# Altium integrated library Motorola PLD Programmable Array Data.IntLib: 10 symbols
Pins are listed as number, name and electrical type; pins without a type are passive.

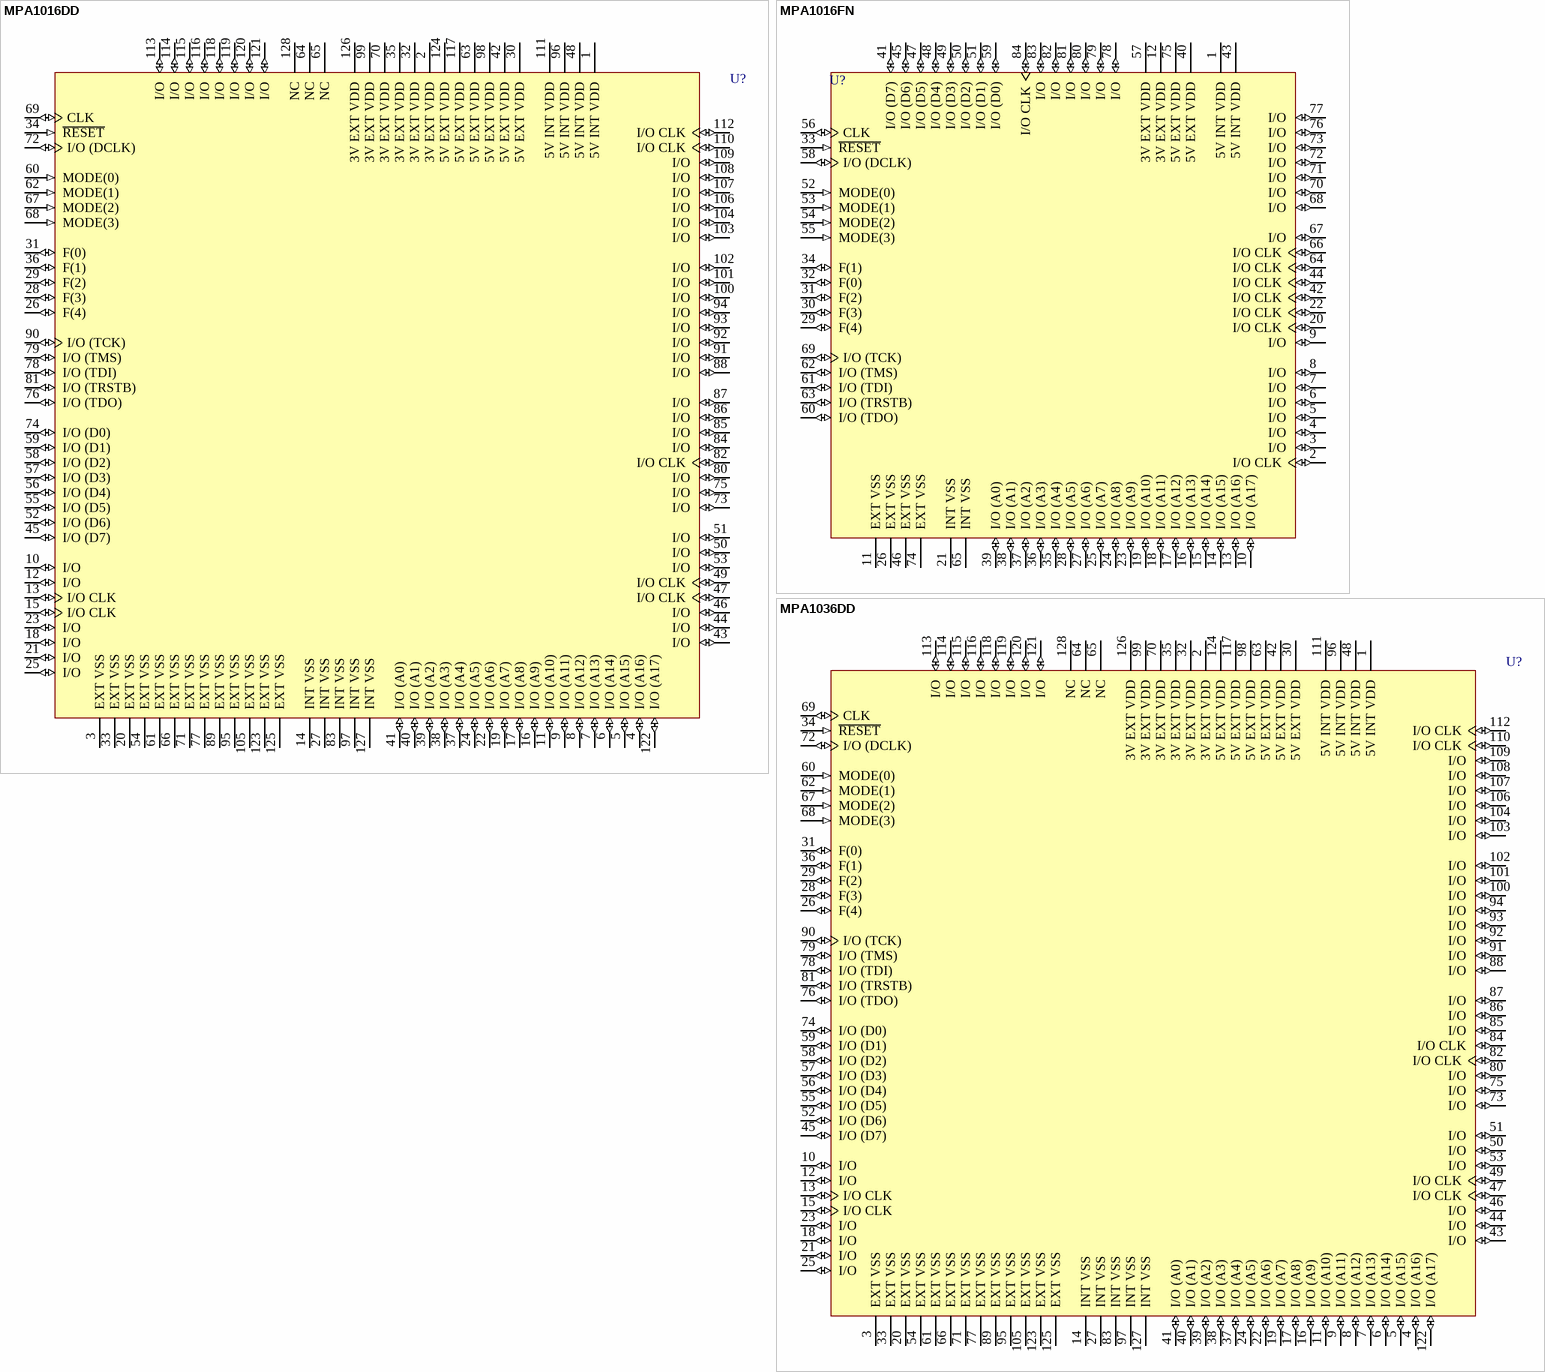
[diagram p0: symbols MPA1016DD to MPA1036DD]

## MPA1016DD
designator U?
High Density Programmable Array (MPA); Published: 28-Feb-2003; LatestRevisionDate: 13-Apr-2006; LatestRevisionNote: IPC-7351 Footprint Added.; DatasheetVersion: DL201/D Rev. 1; PackageReference: 862A-02; Publisher: Altium Limited; PackageDescription: 128-Pin Quad Flat Pack 0.8 mm Pitch; Code_IPC: QFP80P3120X3120-128; ComponentLink1Description: Manufacturer Link; ComponentLink1URL: http://www.motorola.com/
footprint 862A-02_N (QFP, 128-Leads, Body 28x28mm, Pitch 0.8mm, IPC Medium Density)
footprint 862A-02_L (QFP, 128-Leads, Body 28x28mm, Pitch 0.8mm, IPC High Density)
footprint 862A-02_M (QFP, 128-Leads, Body 28x28mm, Pitch 0.8mm, IPC Low Density)
3D model MPA1016DD-862A-02 (128-Pin Quad Flat Pack 0.8 mm Pitch)
pins: 1 5V INT VDD (power), 2 3V EXT VDD (power), 3 EXT VSS (power), 4 I/O (A16) (io), 5 I/O (A15) (io), 6 I/O (A14) (io), 7 I/O (A13) (io), 8 I/O (A12) (io), 9 I/O (A11) (io), 10 I/O (io), 11 I/O (A10) (io), 12 I/O (io), 13 I/O CLK (io), 14 INT VSS (power), 15 I/O CLK (io), 16 I/O (A9) (io), 17 I/O (A8) (io), 18 I/O (io), 19 I/O (A7) (io), 20 EXT VSS (power), 21 I/O (io), 22 I/O (A6) (io), 23 I/O (io), 24 I/O (A5) (io), 25 I/O (io), 26 F(4) (io), 27 INT VSS (power), 28 F(3) (io), 29 F(2) (io), 30 5V EXT VDD (power), 31 F(0) (io), 32 3V EXT VDD (power), 33 EXT VSS (power), 34 ~{RESET} (in), 35 3V EXT VDD (power), 36 F(1) (io), 37 I/O (A4) (io), 38 I/O (A3) (io), 39 I/O (A2) (io), 40 I/O (A1) (io), 41 I/O (A0) (io), 42 5V EXT VDD (power), 43 I/O (io), 44 I/O (io), 45 I/O (D7) (io), 46 I/O (io), 47 I/O CLK (io), 48 5V INT VDD (power), 49 I/O CLK (io), 50 I/O (io), 51 I/O (io), 52 I/O (D6) (io), 53 I/O (io), 54 EXT VSS (power), 55 I/O (D5) (io), 56 I/O (D4) (io), 57 I/O (D3) (io), 58 I/O (D2) (io), 59 I/O (D1) (io), 60 MODE(0) (in), 61 EXT VSS (power), 62 MODE(1) (in), 63 5V EXT VDD (power), 64 NC, 65 NC, 66 EXT VSS (power), 67 MODE(2) (in), 68 MODE(3) (in), 69 CLK (io), 70 3V EXT VDD (power), 71 EXT VSS (power), 72 I/O (DCLK) (io), 73 I/O (io), 74 I/O (D0) (io), 75 I/O (io), 76 I/O (TDO) (io), 77 EXT VSS (power), 78 I/O (TDI) (io), 79 I/O (TMS) (io), 80 I/O (io), 81 I/O (TRSTB) (io), 82 I/O CLK (io), 83 INT VSS (power), 84 I/O (io), 85 I/O (io), 86 I/O (io), 87 I/O (io), 88 I/O (io), 89 EXT VSS (power), 90 I/O (TCK) (io), 91 I/O (io), 92 I/O (io), 93 I/O (io), 94 I/O (io), 95 EXT VSS (power), 96 5V INT VDD (power), 97 INT VSS (power), 98 5V EXT VDD (power), 99 3V EXT VDD (power), 100 I/O (io), 101 I/O (io), 102 I/O (io), 103 I/O (io), 104 I/O (io), 105 EXT VSS (power), 106 I/O (io), 107 I/O (io), 108 I/O (io), 109 I/O (io), 110 I/O CLK (io), 111 5V INT VDD (power), 112 I/O CLK (io), 113 I/O (io), 114 I/O (io), 115 I/O (io), 116 I/O (io), 117 5V EXT VDD (power), 118 I/O (io), 119 I/O (io), 120 I/O (io), 121 I/O (io), 122 I/O (A17) (io), 123 EXT VSS (power), 124 5V EXT VDD (power), 125 EXT VSS (power), 126 3V EXT VDD (power), 127 INT VSS (power), 128 NC

## MPA1016FN
designator U?
High Density Programmable Array (MPA); Published: 28-Feb-2003; LatestRevisionDate: 13-Apr-2006; LatestRevisionNote: IPC-7351 Footprint Added.; DatasheetVersion: DL201/D Rev. 1; PackageVersion: 1996; PackageReference: 780-01; Publisher: Altium Limited; PackageDescription: 84-Pin Leaded Chip Carrier 1.27 mm Pitch; Code_IPC: PLCC-84; ComponentLink1Description: Manufacturer Link; ComponentLink1URL: http://www.motorola.com/
footprint 780-01_N (Leaded Chip Carrier, 84-Leads, Body 29.3x29.3mm, Pitch 1.27mm, IPC Medium Density)
footprint 780-01_L (Leaded Chip Carrier, 84-Leads, Body 29.3x29.3mm, Pitch 1.27mm, IPC High Density)
footprint 780-01_M (Leaded Chip Carrier, 84-Leads, Body 29.3x29.3mm, Pitch 1.27mm, IPC Low Density)
3D model MPA1016FN-780-01 (84-Pin Leaded Chip Carrier 1.27 mm Pitch)
pins: 1 5V INT VDD (power), 2 I/O CLK (io), 3 I/O (io), 4 I/O (io), 5 I/O (io), 6 I/O (io), 7 I/O (io), 8 I/O (io), 9 I/O (io), 10 I/O (A17) (io), 11 EXT VSS (power), 12 3V EXT VDD (power), 13 I/O (A16) (io), 14 I/O (A15) (io), 15 I/O (A14) (io), 16 I/O (A13) (io), 17 I/O (A12) (io), 18 I/O (A11) (io), 19 I/O (A10) (io), 20 I/O CLK (io), 21 INT VSS (power), 22 I/O CLK (io), 23 I/O (A9) (io), 24 I/O (A8) (io), 25 I/O (A7) (io), 26 EXT VSS (power), 27 I/O (A6) (io), 28 I/O (A5) (io), 29 F(4) (io), 30 F(3) (io), 31 F(2) (io), 32 F(0) (io), 33 ~{RESET} (in), 34 F(1) (io), 35 I/O (A4) (io), 36 I/O (A3) (io), 37 I/O (A2) (io), 38 I/O (A1) (io), 39 I/O (A0) (io), 40 5V EXT VDD (power), 41 I/O (D7) (io), 42 I/O CLK (io), 43 5V INT VDD (power), 44 I/O CLK (io), 45 I/O (D6) (io), 46 EXT VSS (power), 47 I/O (D5) (io), 48 I/O (D4) (io), 49 I/O (D3) (io), 50 I/O (D2) (io), 51 I/O (D1) (io), 52 MODE(0) (in), 53 MODE(1) (in), 54 MODE(2) (in), 55 MODE(3) (in), 56 CLK (io), 57 3V EXT VDD (power), 58 I/O (DCLK) (io), 59 I/O (D0) (io), 60 I/O (TDO) (io), 61 I/O (TDI) (io), 62 I/O (TMS) (io), 63 I/O (TRSTB) (io), 64 I/O CLK (io), 65 INT VSS (power), 66 I/O CLK (io), 67 I/O (io), 68 I/O (io), 69 I/O (TCK) (io), 70 I/O (io), 71 I/O (io), 72 I/O (io), 73 I/O (io), 74 EXT VSS (power), 75 5V EXT VDD (power), 76 I/O (io), 77 I/O (io), 78 I/O (io), 79 I/O (io), 80 I/O (io), 81 I/O (io), 82 I/O (io), 83 I/O (io), 84 I/O CLK (io)

## MPA1036DD
designator U?
High Density Programmable Array (MPA); Published: 28-Feb-2003; LatestRevisionDate: 13-Apr-2006; LatestRevisionNote: IPC-7351 Footprint Added.; DatasheetVersion: DL201/D Rev. 1; PackageReference: 862A-02; Publisher: Altium Limited; PackageDescription: 128-Pin Quad Flat Pack 0.8 mm Pitch; Code_IPC: QFP80P3120X3120-128; ComponentLink1Description: Manufacturer Link; ComponentLink1URL: http://www.motorola.com/
footprint 862A-02_N (QFP, 128-Leads, Body 28x28mm, Pitch 0.8mm, IPC Medium Density)
footprint 862A-02_L (QFP, 128-Leads, Body 28x28mm, Pitch 0.8mm, IPC High Density)
footprint 862A-02_M (QFP, 128-Leads, Body 28x28mm, Pitch 0.8mm, IPC Low Density)
3D model MPA1036DD-862A-02 (128-Pin Quad Flat Pack 0.8 mm Pitch)
pins: 1 5V INT VDD (power), 2 3V EXT VDD (power), 3 EXT VSS (power), 4 I/O (A16) (io), 5 I/O (A15) (io), 6 I/O (A14) (io), 7 I/O (A13) (io), 8 I/O (A12) (io), 9 I/O (A11) (io), 10 I/O (io), 11 I/O (A10) (io), 12 I/O (io), 13 I/O CLK (io), 14 INT VSS (power), 15 I/O CLK (io), 16 I/O (A9) (io), 17 I/O (A8) (io), 18 I/O (io), 19 I/O (A7) (io), 20 EXT VSS (power), 21 I/O (io), 22 I/O (A6) (io), 23 I/O (io), 24 I/O (A5) (io), 25 I/O (io), 26 F(4) (io), 27 INT VSS (power), 28 F(3) (io), 29 F(2) (io), 30 5V EXT VDD (power), 31 F(0) (io), 32 3V EXT VDD (power), 33 EXT VSS (power), 34 ~{RESET} (in), 35 3V EXT VDD (power), 36 F(1) (io), 37 I/O (A4) (io), 38 I/O (A3) (io), 39 I/O (A2) (io), 40 I/O (A1) (io), 41 I/O (A0) (io), 42 5V EXT VDD (power), 43 I/O (io), 44 I/O (io), 45 I/O (D7) (io), 46 I/O (io), 47 I/O CLK (io), 48 5V INT VDD (power), 49 I/O CLK (io), 50 I/O (io), 51 I/O (io), 52 I/O (D6) (io), 53 I/O (io), 54 EXT VSS (power), 55 I/O (D5) (io), 56 I/O (D4) (io), 57 I/O (D3) (io), 58 I/O (D2) (io), 59 I/O (D1) (io), 60 MODE(0) (in), 61 EXT VSS (power), 62 MODE(1) (in), 63 5V EXT VDD (power), 64 NC, 65 NC, 66 EXT VSS (power), 67 MODE(2) (in), 68 MODE(3) (in), 69 CLK (io), 70 3V EXT VDD (power), 71 EXT VSS (power), 72 I/O (DCLK) (io), 73 I/O (io), 74 I/O (D0) (io), 75 I/O (io), 76 I/O (TDO) (io), 77 EXT VSS (power), 78 I/O (TDI) (io), 79 I/O (TMS) (io), 80 I/O (io), 81 I/O (TRSTB) (io), 82 I/O CLK (io), 83 INT VSS (power), 84 I/O CLK (io), 85 I/O (io), 86 I/O (io), 87 I/O (io), 88 I/O (io), 89 EXT VSS (power), 90 I/O (TCK) (io), 91 I/O (io), 92 I/O (io), 93 I/O (io), 94 I/O (io), 95 EXT VSS (power), 96 5V INT VDD (power), 97 INT VSS (power), 98 5V EXT VDD (power), 99 3V EXT VDD (power), 100 I/O (io), 101 I/O (io), 102 I/O (io), 103 I/O (io), 104 I/O (io), 105 EXT VSS (power), 106 I/O (io), 107 I/O (io), 108 I/O (io), 109 I/O (io), 110 I/O CLK (io), 111 5V INT VDD (power), 112 I/O CLK (io), 113 I/O (io), 114 I/O (io), 115 I/O (io), 116 I/O (io), 117 5V EXT VDD (power), 118 I/O (io), 119 I/O (io), 120 I/O (io), 121 I/O (io), 122 I/O (A17) (io), 123 EXT VSS (power), 124 5V EXT VDD (power), 125 EXT VSS (power), 126 3V EXT VDD (power), 127 INT VSS (power), 128 NC

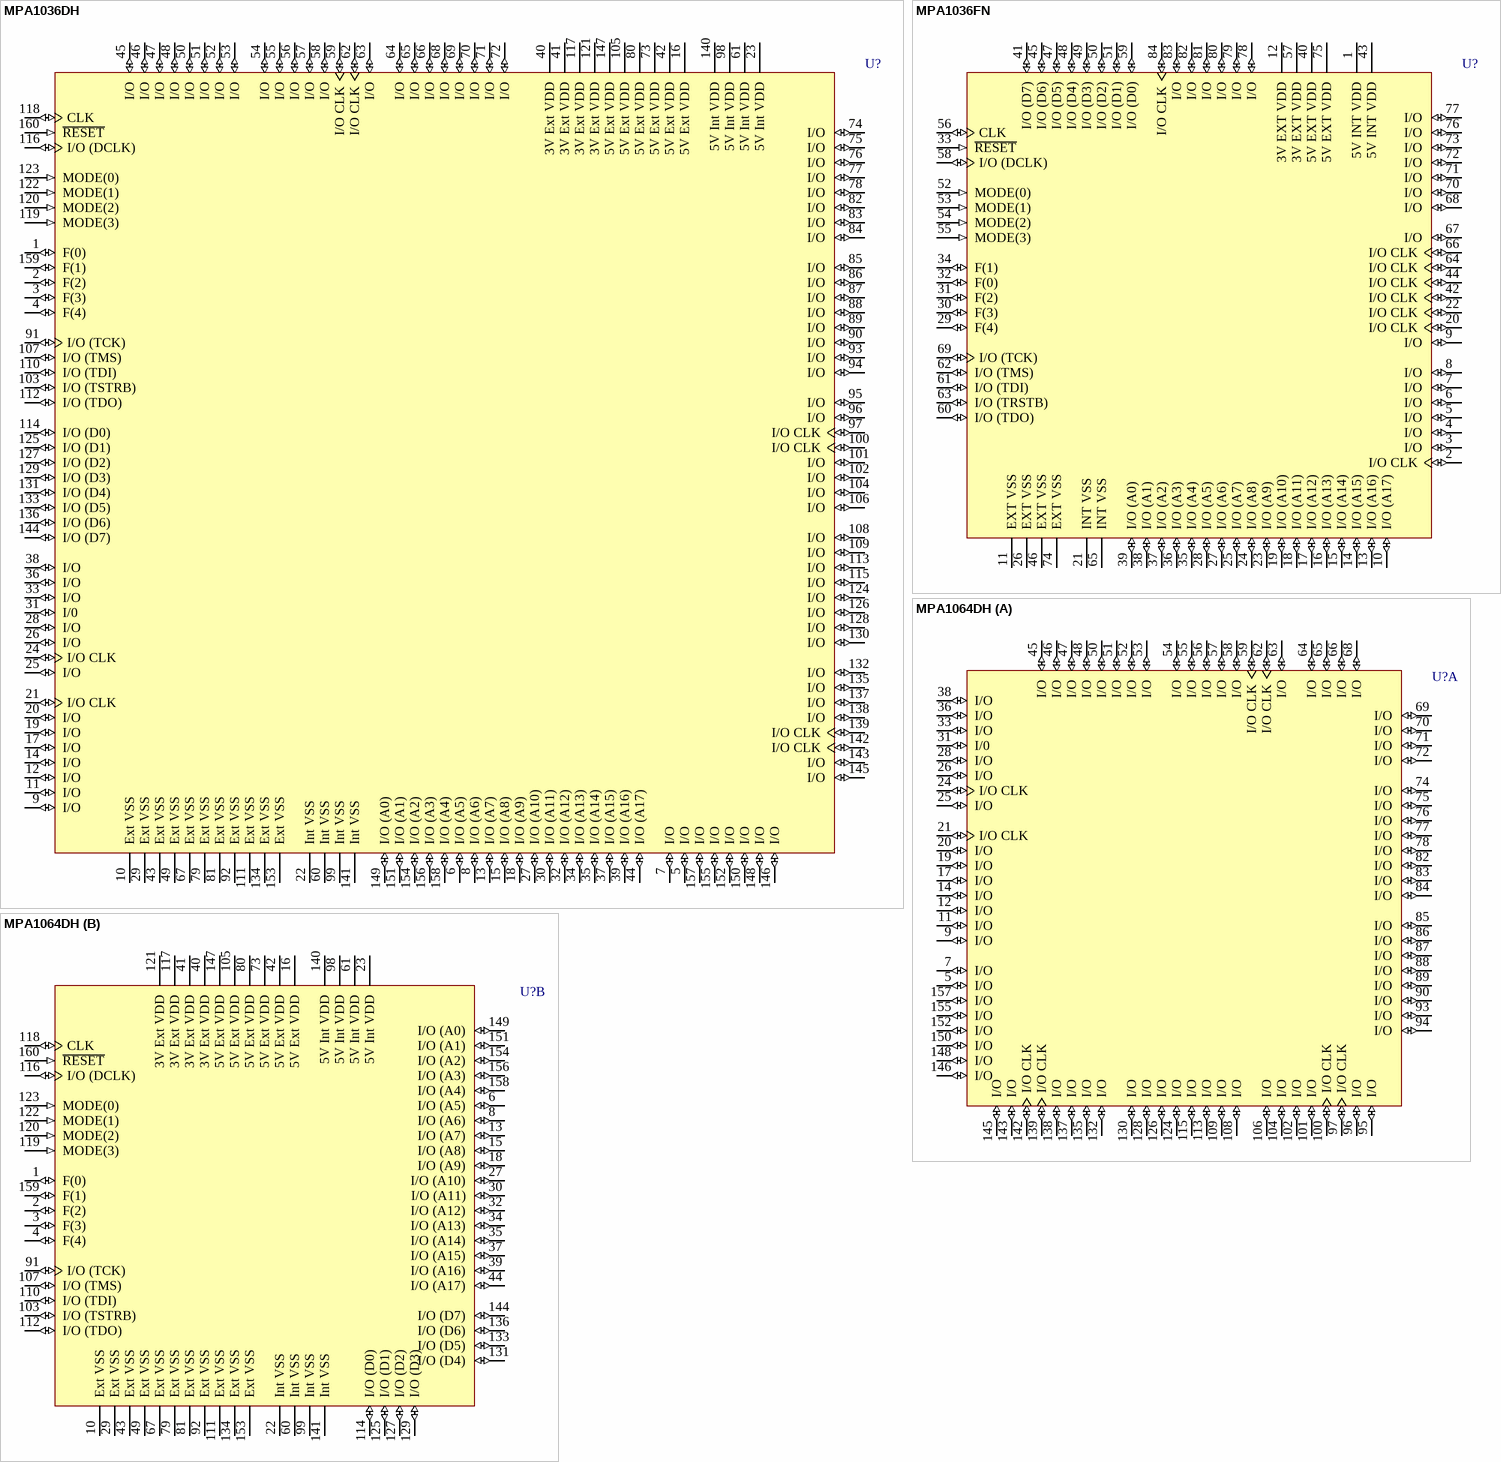
[diagram p1: symbols MPA1036DH to MPA1064DH]

## MPA1036DH
designator U?
High Density Programmable Array (MPA); Published: 28-Feb-2003; LatestRevisionDate: 13-Apr-2006; LatestRevisionNote: IPC-7351 Footprint Added.; DatasheetVersion: DL201/D Rev. 1; PackageVersion: 1996; PackageReference: 864A-03; Publisher: Altium Limited; PackageDescription: 160-Pin Plastic Quad Flat Pack 0.65 mm Pitch; Code_IPC: QFP65P3120X3120-160; ComponentLink1Description: Manufacturer Link; ComponentLink1URL: http://www.motorola.com/
footprint 864A-03_N (QFP, 160-Leads, Body 28 x 28mm, Pitch 0.65mm, IPC Medium Density)
footprint 864A-03_L (QFP, 160-Leads, Body 28 x 28mm, Pitch 0.65mm, IPC High Density)
footprint 864A-03_M (QFP, 160-Leads, Body 28 x 28mm, Pitch 0.65mm, IPC Low Density)
3D model MPA1036DH-864A-03 (160-Pin Plastic Quad Flat Pack 0.65 mm Pitch)
pins: 1 F(0) (io), 2 F(2) (io), 3 F(3) (io), 4 F(4) (io), 5 I/O (io), 6 I/O (A5) (io), 7 I/O (io), 8 I/O (A6) (io), 9 I/O (io), 10 Ext VSS (power), 11 I/O (io), 12 I/O (io), 13 I/O (A7) (io), 14 I/O (io), 15 I/O (A8) (io), 16 5V Ext VDD (power), 17 I/O (io), 18 I/O (A9) (io), 19 I/O (io), 20 I/O (io), 21 I/O CLK (io), 22 Int VSS (power), 23 5V Int VDD (power), 24 I/O CLK (io), 25 I/O (io), 26 I/O (io), 27 I/O (A10) (io), 28 I/O (io), 29 Ext VSS (power), 30 I/O (A11) (io), 31 I/0 (io), 32 I/O (A12) (io), 33 I/O (io), 34 I/O (A13) (io), 35 I/O (A14) (io), 36 I/O (io), 37 I/O (A15) (io), 38 I/O (io), 39 I/O (A16) (io), 40 3V Ext VDD (power), 41 3V Ext VDD (power), 42 5V Ext VDD (power), 43 Ext VSS (power), 44 I/O (A17) (io), 45 I/O (io), 46 I/O (io), 47 I/O (io), 48 I/O (io), 49 Ext VSS (power), 50 I/O (io), 51 I/O (io), 52 I/O (io), 53 I/O (io), 54 I/O (io), 55 I/O (io), 56 I/O (io), 57 I/O (io), 58 I/O (io), 59 I/O CLK (io), 60 Int VSS (power), 61 5V Int VDD (power), 62 I/O CLK (io), 63 I/O (io), 64 I/O (io), 65 I/O (io), 66 I/O (io), 67 Ext VSS (power), 68 I/O (io), 69 I/O (io), 70 I/O (io), 71 I/O (io), 72 I/O (io), 73 5V Ext VDD (power), 74 I/O (io), 75 I/O (io), 76 I/O (io), 77 I/O (io), 78 I/O (io), 79 Ext VSS (power), 80 5V Ext VDD (power), 81 Ext VSS (power), 82 I/O (io), 83 I/O (io), 84 I/O (io), 85 I/O (io), 86 I/O (io), 87 I/O (io), 88 I/O (io), 89 I/O (io), 90 I/O (io), 91 I/O (TCK) (io), 92 Ext VSS (power), 93 I/O (io), 94 I/O (io), 95 I/O (io), 96 I/O (io), 97 I/O CLK (io), 98 5V Int VDD (power), 99 Int VSS (power), 100 I/O CLK (io), 101 I/O (io), 102 I/O (io), 103 I/O (TSTRB) (io), 104 I/O (io), 105 5V Ext VDD (power), 106 I/O (io), 107 I/O (TMS) (io), 108 I/O (io), 109 I/O (io), 110 I/O (TDI) (io), 111 Ext VSS (power), 112 I/O (TDO) (io), 113 I/O (io), 114 I/O (D0) (io), 115 I/O (io), 116 I/O (DCLK) (io), 117 3V Ext VDD (power), 118 CLK (io), 119 MODE(3) (in), 120 MODE(2) (in), 121 3V Ext VDD (power), 122 MODE(1) (in), 123 MODE(0) (in), 124 I/O (io), 125 I/O (D1) (io), 126 I/O (io), 127 I/O (D2) (io), 128 I/O (io), 129 I/O (D3) (io), 130 I/O (io), 131 I/O (D4) (io), 132 I/O (io), 133 I/O (D5) (io), 134 Ext VSS (power), 135 I/O (io), 136 I/O (D6) (io), 137 I/O (io), 138 I/O (io), 139 I/O CLK (io), 140 5V Int VDD (power), 141 Int VSS (power), 142 I/O CLK (io), 143 I/O (io), 144 I/O (D7) (io), 145 I/O (io), 146 I/O (io), 147 5V Ext VDD (power), 148 I/O (io), 149 I/O (A0) (io), 150 I/O (io), 151 I/O (A1) (io), 152 I/O (io), 153 Ext VSS (power), 154 I/O (A2) (io), 155 I/O (io), 156 I/O (A3) (io), 157 I/O (io), 158 I/O (A4) (io), 159 F(1) (io), 160 ~{RESET} (in)

## MPA1036FN
designator U?
High Density Programmable Array (MPA); Published: 28-Feb-2003; LatestRevisionDate: 13-Apr-2006; LatestRevisionNote: IPC-7351 Footprint Added.; DatasheetVersion: DL201/D Rev. 1; PackageVersion: 1996; PackageReference: 780-01; Publisher: Altium Limited; PackageDescription: 84-Pin Leaded Chip Carrier 1.27 mm Pitch; Code_IPC: PLCC-84; ComponentLink1Description: Manufacturer Link; ComponentLink1URL: http://www.motorola.com/
footprint 780-01_N (Leaded Chip Carrier, 84-Leads, Body 29.3x29.3mm, Pitch 1.27mm, IPC Medium Density)
footprint 780-01_L (Leaded Chip Carrier, 84-Leads, Body 29.3x29.3mm, Pitch 1.27mm, IPC High Density)
footprint 780-01_M (Leaded Chip Carrier, 84-Leads, Body 29.3x29.3mm, Pitch 1.27mm, IPC Low Density)
3D model MPA1036FN-780-01 (84-Pin Leaded Chip Carrier 1.27 mm Pitch)
pins: 1 5V INT VDD (power), 2 I/O CLK (io), 3 I/O (io), 4 I/O (io), 5 I/O (io), 6 I/O (io), 7 I/O (io), 8 I/O (io), 9 I/O (io), 10 I/O (A17) (io), 11 EXT VSS (power), 12 3V EXT VDD (power), 13 I/O (A16) (io), 14 I/O (A15) (io), 15 I/O (A14) (io), 16 I/O (A13) (io), 17 I/O (A12) (io), 18 I/O (A11) (io), 19 I/O (A10) (io), 20 I/O CLK (io), 21 INT VSS (power), 22 I/O CLK (io), 23 I/O (A9) (io), 24 I/O (A8) (io), 25 I/O (A7) (io), 26 EXT VSS (power), 27 I/O (A6) (io), 28 I/O (A5) (io), 29 F(4) (io), 30 F(3) (io), 31 F(2) (io), 32 F(0) (io), 33 ~{RESET} (in), 34 F(1) (io), 35 I/O (A4) (io), 36 I/O (A3) (io), 37 I/O (A2) (io), 38 I/O (A1) (io), 39 I/O (A0) (io), 40 5V EXT VDD (power), 41 I/O (D7) (io), 42 I/O CLK (io), 43 5V INT VDD (power), 44 I/O CLK (io), 45 I/O (D6) (io), 46 EXT VSS (power), 47 I/O (D5) (io), 48 I/O (D4) (io), 49 I/O (D3) (io), 50 I/O (D2) (io), 51 I/O (D1) (io), 52 MODE(0) (in), 53 MODE(1) (in), 54 MODE(2) (in), 55 MODE(3) (in), 56 CLK (io), 57 3V EXT VDD (power), 58 I/O (DCLK) (io), 59 I/O (D0) (io), 60 I/O (TDO) (io), 61 I/O (TDI) (io), 62 I/O (TMS) (io), 63 I/O (TRSTB) (io), 64 I/O CLK (io), 65 INT VSS (power), 66 I/O CLK (io), 67 I/O (io), 68 I/O (io), 69 I/O (TCK) (io), 70 I/O (io), 71 I/O (io), 72 I/O (io), 73 I/O (io), 74 EXT VSS (power), 75 5V EXT VDD (power), 76 I/O (io), 77 I/O (io), 78 I/O (io), 79 I/O (io), 80 I/O (io), 81 I/O (io), 82 I/O (io), 83 I/O (io), 84 I/O CLK (io)

## MPA1064DH
designator U?
High Density Programmable Array (MPA); Published: 28-Feb-2003; LatestRevisionDate: 13-Apr-2006; LatestRevisionNote: IPC-7351 Footprint Added.; DatasheetVersion: DL201/D Rev. 1; PackageVersion: 1996; PackageReference: 864A-03; Publisher: Altium Limited; PackageDescription: 160-Pin Plastic Quad Flat Pack 0.65 mm Pitch; Code_IPC: QFP65P3120X3120-160; ComponentLink1Description: Manufacturer Link; ComponentLink1URL: http://www.motorola.com/
footprint 864A-03_N (QFP, 160-Leads, Body 28 x 28mm, Pitch 0.65mm, IPC Medium Density)
footprint 864A-03_L (QFP, 160-Leads, Body 28 x 28mm, Pitch 0.65mm, IPC High Density)
footprint 864A-03_M (QFP, 160-Leads, Body 28 x 28mm, Pitch 0.65mm, IPC Low Density)
3D model MPA1064DH-864A-03 (160-Pin Plastic Quad Flat Pack 0.65 mm Pitch)
part A pins: 5 I/O (io), 7 I/O (io), 9 I/O (io), 11 I/O (io), 12 I/O (io), 14 I/O (io), 17 I/O (io), 19 I/O (io), 20 I/O (io), 21 I/O CLK (io), 24 I/O CLK (io), 25 I/O (io), 26 I/O (io), 28 I/O (io), 31 I/0 (io), 33 I/O (io), 36 I/O (io), 38 I/O (io), 45 I/O (io), 46 I/O (io), 47 I/O (io), 48 I/O (io), 50 I/O (io), 51 I/O (io), 52 I/O (io), 53 I/O (io), 54 I/O (io), 55 I/O (io), 56 I/O (io), 57 I/O (io), 58 I/O (io), 59 I/O CLK (io), 62 I/O CLK (io), 63 I/O (io), 64 I/O (io), 65 I/O (io), 66 I/O (io), 68 I/O (io), 69 I/O (io), 70 I/O (io), 71 I/O (io), 72 I/O (io), 74 I/O (io), 75 I/O (io), 76 I/O (io), 77 I/O (io), 78 I/O (io), 82 I/O (io), 83 I/O (io), 84 I/O (io), 85 I/O (io), 86 I/O (io), 87 I/O (io), 88 I/O (io), 89 I/O (io), 90 I/O (io), 93 I/O (io), 94 I/O (io), 95 I/O (io), 96 I/O (io), 97 I/O CLK (io), 100 I/O CLK (io), 101 I/O (io), 102 I/O (io), 104 I/O (io), 106 I/O (io), 108 I/O (io), 109 I/O (io), 113 I/O (io), 115 I/O (io), 124 I/O (io), 126 I/O (io), 128 I/O (io), 130 I/O (io), 132 I/O (io), 135 I/O (io), 137 I/O (io), 138 I/O (io), 139 I/O CLK (io), 142 I/O CLK (io), 143 I/O (io), 145 I/O (io), 146 I/O (io), 148 I/O (io), 150 I/O (io), 152 I/O (io), 155 I/O (io), 157 I/O (io)
part B pins: 1 F(0) (io), 2 F(2) (io), 3 F(3) (io), 4 F(4) (io), 6 I/O (A5) (io), 8 I/O (A6) (io), 10 Ext VSS (power), 13 I/O (A7) (io), 15 I/O (A8) (io), 16 5V Ext VDD (power), 18 I/O (A9) (io), 22 Int VSS (power), 23 5V Int VDD (power), 27 I/O (A10) (io), 29 Ext VSS (power), 30 I/O (A11) (io), 32 I/O (A12) (io), 34 I/O (A13) (io), 35 I/O (A14) (io), 37 I/O (A15) (io), 39 I/O (A16) (io), 40 3V Ext VDD (power), 41 3V Ext VDD (power), 42 5V Ext VDD (power), 43 Ext VSS (power), 44 I/O (A17) (io), 49 Ext VSS (power), 60 Int VSS (power), 61 5V Int VDD (power), 67 Ext VSS (power), 73 5V Ext VDD (power), 79 Ext VSS (power), 80 5V Ext VDD (power), 81 Ext VSS (power), 91 I/O (TCK) (io), 92 Ext VSS (power), 98 5V Int VDD (power), 99 Int VSS (power), 103 I/O (TSTRB) (io), 105 5V Ext VDD (power), 107 I/O (TMS) (io), 110 I/O (TDI) (io), 111 Ext VSS (power), 112 I/O (TDO) (io), 114 I/O (D0) (io), 116 I/O (DCLK) (io), 117 3V Ext VDD (power), 118 CLK (io), 119 MODE(3) (in), 120 MODE(2) (in), 121 3V Ext VDD (power), 122 MODE(1) (in), 123 MODE(0) (in), 125 I/O (D1) (io), 127 I/O (D2) (io), 129 I/O (D3) (io), 131 I/O (D4) (io), 133 I/O (D5) (io), 134 Ext VSS (power), 136 I/O (D6) (io), 140 5V Int VDD (power), 141 Int VSS (power), 144 I/O (D7) (io), 147 5V Ext VDD (power), 149 I/O (A0) (io), 151 I/O (A1) (io), 153 Ext VSS (power), 154 I/O (A2) (io), 156 I/O (A3) (io), 158 I/O (A4) (io), 159 F(1) (io), 160 ~{RESET} (in)

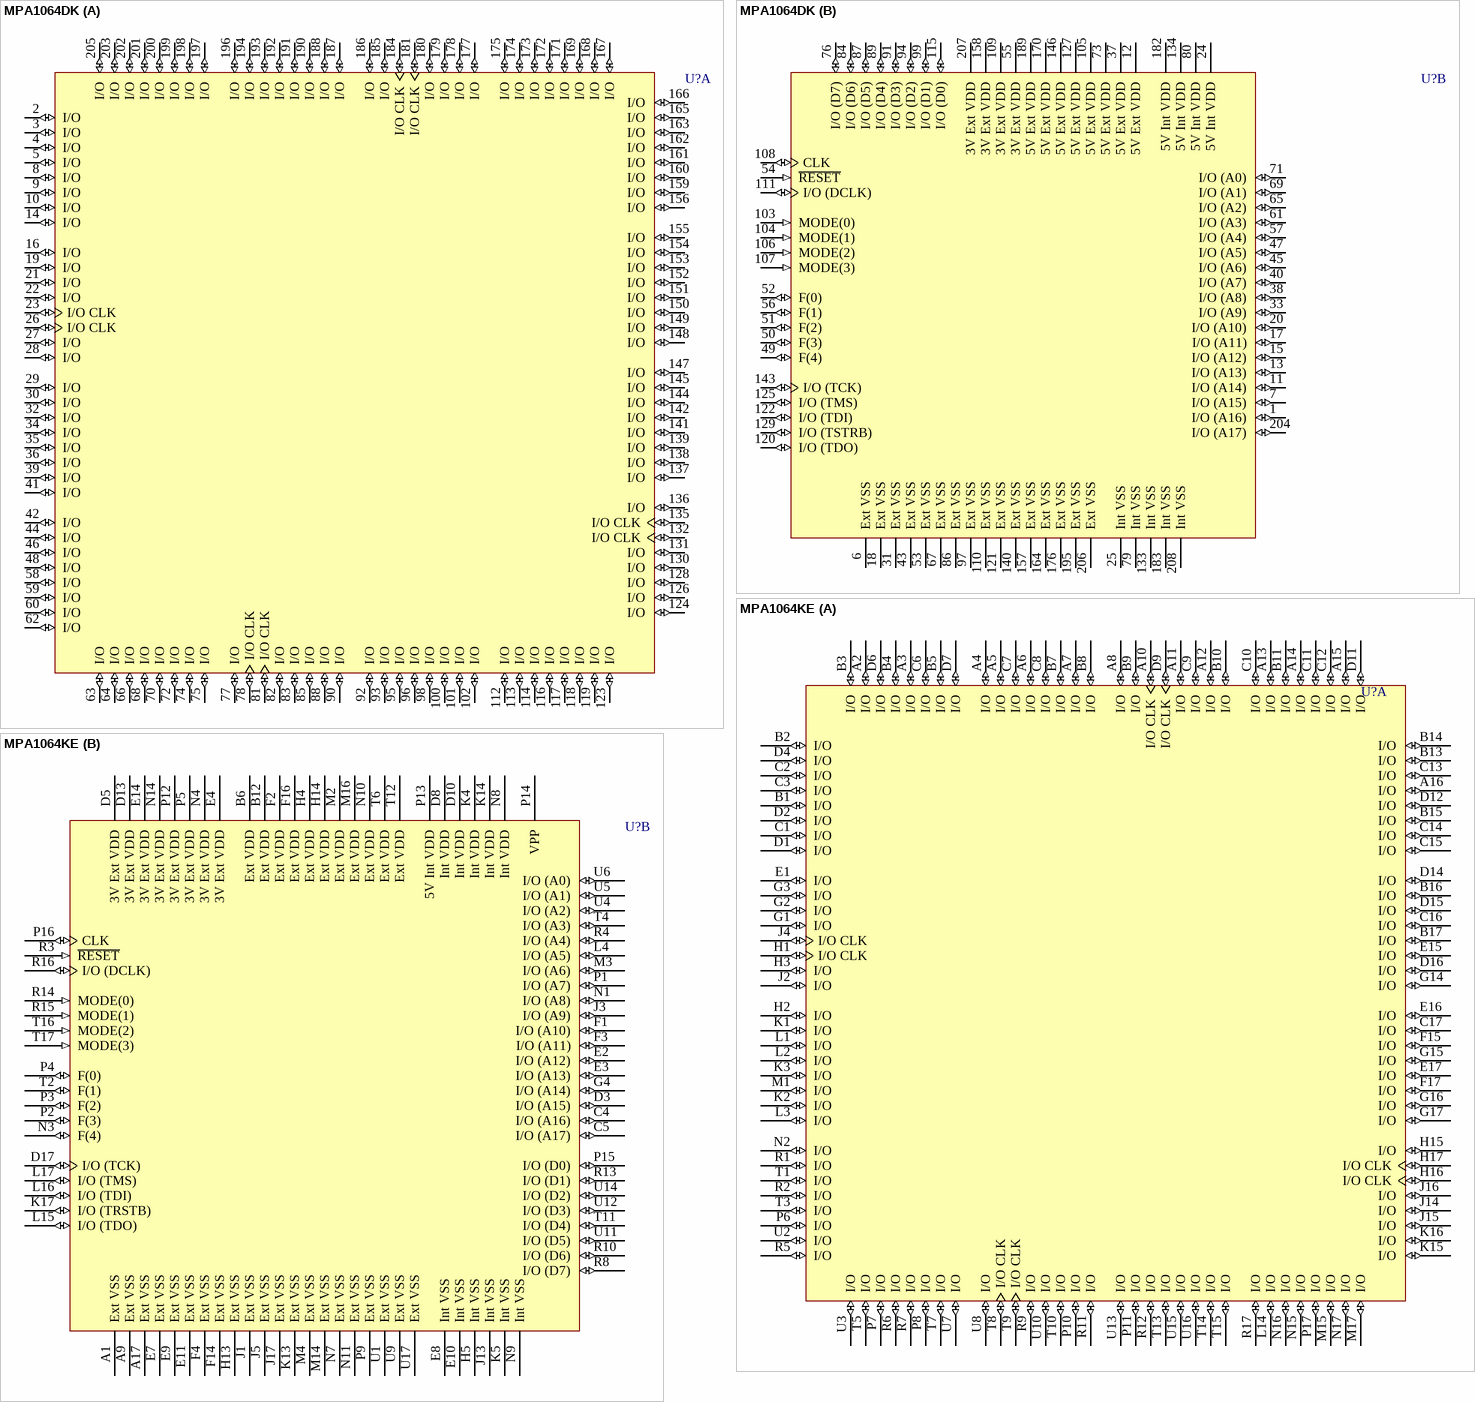
[diagram p2: symbols MPA1064DK to MPA1064KE]

## MPA1064DK
designator U?
High Density Programmable Array (MPA); Published: 28-Feb-2003; LatestRevisionDate: 13-Apr-2006; LatestRevisionNote: IPC-7351 Footprint Added.; DatasheetVersion: DL201/D Rev. 1; PackageVersion: 1996; PackageReference: 872A-01; Publisher: Altium Limited; PackageDescription: 208-Pin Shrink Quad Flat Pack 0.5 mm Pitch; ComponentLink1Description: Manufacturer Link; ComponentLink1URL: http://www.motorola.com/
footprint 872A-01_N (Shrink QFP, 208-Leads, Body 28x28mm, Pitch 0.5mm, IPC Medium Density)
footprint 872A-01_L (Shrink QFP, 208-Leads, Body 28x28mm, Pitch 0.5mm, IPC High Density)
footprint 872A-01_M (Shrink QFP, 208-Leads, Body 28x28mm, Pitch 0.5mm, IPC Low Density)
3D model MPA1064DK-872A-01 (208-Pin Shrink Quad Flat Pack 0.5 mm Pitch)
part A pins: 2 I/O (io), 3 I/O (io), 4 I/O (io), 5 I/O (io), 8 I/O (io), 9 I/O (io), 10 I/O (io), 14 I/O (io), 16 I/O (io), 19 I/O (io), 21 I/O (io), 22 I/O (io), 23 I/O CLK (io), 26 I/O CLK (io), 27 I/O (io), 28 I/O (io), 29 I/O (io), 30 I/O (io), 32 I/O (io), 34 I/O (io), 35 I/O (io), 36 I/O (io), 39 I/O (io), 41 I/O (io), 42 I/O (io), 44 I/O (io), 46 I/O (io), 48 I/O (io), 58 I/O (io), 59 I/O (io), 60 I/O (io), 62 I/O (io), 63 I/O (io), 64 I/O (io), 66 I/O (io), 68 I/O (io), 70 I/O (io), 72 I/O (io), 74 I/O (io), 75 I/O (io), 77 I/O (io), 78 I/O CLK (io), 81 I/O CLK (io), 82 I/O (io), 83 I/O (io), 85 I/O (io), 88 I/O (io), 90 I/O (io), 92 I/O (io), 93 I/O (io), 95 I/O (io), 96 I/O (io), 98 I/O (io), 100 I/O (io), 101 I/O (io), 102 I/O (io), 112 I/O (io), 113 I/O (io), 114 I/O (io), 116 I/O (io), 117 I/O (io), 118 I/O (io), 119 I/O (io), 123 I/O (io), 124 I/O (io), 126 I/O (io), 128 I/O (io), 130 I/O (io), 131 I/O (io), 132 I/O CLK (io), 135 I/O CLK (io), 136 I/O (io), 137 I/O (io), 138 I/O (io), 139 I/O (io), 141 I/O (io), 142 I/O (io), 144 I/O (io), 145 I/O (io), 147 I/O (io), 148 I/O (io), 149 I/O (io), 150 I/O (io), 151 I/O (io), 152 I/O (io), 153 I/O (io), 154 I/O (io), 155 I/O (io), 156 I/O (io), 159 I/O (io), 160 I/O (io), 161 I/O (io), 162 I/O (io), 163 I/O (io), 165 I/O (io), 166 I/O (io), 167 I/O (io), 168 I/O (io), 169 I/O (io), 171 I/O (io), 172 I/O (io), 173 I/O (io), 174 I/O (io), 175 I/O (io), 177 I/O (io), 178 I/O (io), 179 I/O (io), 180 I/O (io), 181 I/O CLK (io), 184 I/O CLK (io), 185 I/O (io), 186 I/O (io), 187 I/O (io), 188 I/O (io), 190 I/O (io), 191 I/O (io), 192 I/O (io), 193 I/O (io), 194 I/O (io), 196 I/O (io), 197 I/O (io), 198 I/O (io), 199 I/O (io), 200 I/O (io), 201 I/O (io), 202 I/O (io), 203 I/O (io), 205 I/O (io)
part B pins: 1 I/O (A16) (io), 6 Ext VSS (power), 7 I/O (A15) (io), 11 I/O (A14) (io), 12 5V Ext VDD (power), 13 I/O (A13) (io), 15 I/O (A12) (io), 17 I/O (A11) (io), 18 Ext VSS (power), 20 I/O (A10) (io), 24 5V Int VDD (power), 25 Int VSS (power), 31 Ext VSS (power), 33 I/O (A9) (io), 37 5V Ext VDD (power), 38 I/O (A8) (io), 40 I/O (A7) (io), 43 Ext VSS (power), 45 I/O (A6) (io), 47 I/O (A5) (io), 49 F(4) (io), 50 F(3) (io), 51 F(2) (io), 52 F(0) (io), 53 Ext VSS (power), 54 ~{RESET} (in), 55 3V Ext VDD (power), 56 F(1) (io), 57 I/O (A4) (io), 61 I/O (A3) (io), 65 I/O (A2) (io), 67 Ext VSS (power), 69 I/O (A1) (io), 71 I/O (A0) (io), 73 5V Ext VDD (power), 76 I/O (D7) (io), 79 Int VSS (power), 80 5V Int VDD (power), 84 I/O (D6) (io), 86 Ext VSS (power), 87 I/O (D5) (io), 89 I/O (D4) (io), 91 I/O (D3) (io), 94 I/O (D2) (io), 97 Ext VSS (power), 99 I/O (D1) (io), 103 MODE(0) (in), 104 MODE(1) (in), 105 5V Ext VDD (power), 106 MODE(2) (in), 107 MODE(3) (in), 108 CLK (io), 109 3V Ext VDD (power), 110 Ext VSS (power), 111 I/O (DCLK) (io), 115 I/O (D0) (io), 120 I/O (TDO) (io), 121 Ext VSS (power), 122 I/O (TDI) (io), 125 I/O (TMS) (io), 127 5V Ext VDD (power), 129 I/O (TSTRB) (io), 133 Int VSS (power), 134 5V Int VDD (power), 140 Ext VSS (power), 143 I/O (TCK) (io), 146 5V Ext VDD (power), 157 Ext VSS (power), 158 3V Ext VDD (power), 164 Ext VSS (power), 170 5V Ext VDD (power), 176 Ext VSS (power), 182 5V Int VDD (power), 183 Int VSS (power), 189 5V Ext VDD (power), 195 Ext VSS (power), 204 I/O (A17) (io), 206 Ext VSS (power), 207 3V Ext VDD (power), 208 Int VSS (power)

## MPA1064KE
designator U?
High Density Programmable Array (MPA); Published: 28-Feb-2003; LatestRevisionDate: 04-Mar-2005; LatestRevisionNote: Stylized 3D Model Added.; DatasheetVersion: DL201/D Rev. 1; PackageVersion: 1996; PackageReference: 823B-01; Publisher: Altium Limited; PackageDescription: 224-Pin Pin Grid Array 2.54 mm Pitch; ComponentLink1Description: Manufacturer Link; ComponentLink1URL: http://www.motorola.com/
footprint 823B-01 (PGA, 224-Leads, Body 44x44mm, Pitch 2.54mm)
3D model MPA1064KE-823B-01 (224-Pin Pin Grid Array 2.54 mm Pitch)
part A pins: A2 I/O (io), A3 I/O (io), A4 I/O (io), A5 I/O (io), A6 I/O (io), A7 I/O (io), A8 I/O (io), A10 I/O CLK (io), A11 I/O (io), A12 I/O (io), A13 I/O (io), A14 I/O (io), A15 I/O (io), A16 I/O (io), B1 I/O (io), B2 I/O (io), B3 I/O (io), B4 I/O (io), B5 I/O (io), B7 I/O (io), B8 I/O (io), B9 I/O (io), B10 I/O (io), B11 I/O (io), B13 I/O (io), B14 I/O (io), B15 I/O (io), B16 I/O (io), B17 I/O (io), C1 I/O (io), C2 I/O (io), C3 I/O (io), C6 I/O (io), C7 I/O (io), C8 I/O (io), C9 I/O (io), C10 I/O (io), C11 I/O (io), C12 I/O (io), C13 I/O (io), C14 I/O (io), C15 I/O (io), C16 I/O (io), C17 I/O (io), D1 I/O (io), D2 I/O (io), D4 I/O (io), D6 I/O (io), D7 I/O (io), D9 I/O CLK (io), D11 I/O (io), D12 I/O (io), D14 I/O (io), D15 I/O (io), D16 I/O (io), E1 I/O (io), E15 I/O (io), E16 I/O (io), E17 I/O (io), F15 I/O (io), F17 I/O (io), G1 I/O (io), G2 I/O (io), G3 I/O (io), G14 I/O (io), G15 I/O (io), G16 I/O (io), G17 I/O (io), H1 I/O CLK (io), H2 I/O (io), H3 I/O (io), H15 I/O (io), H16 I/O CLK (io), H17 I/O CLK (io), J2 I/O (io), J4 I/O CLK (io), J14 I/O (io), J15 I/O (io), J16 I/O (io), K1 I/O (io), K2 I/O (io), K3 I/O (io), K15 I/O (io), K16 I/O (io), L1 I/O (io), L2 I/O (io), L3 I/O (io), L14 I/O (io), M1 I/O (io), M15 I/O (io), M17 I/O (io), N2 I/O (io), N15 I/O (io), N16 I/O (io), N17 I/O (io), P6 I/O (io), P7 I/O (io), P8 I/O (io), P10 I/O (io), P11 I/O (io), P17 I/O (io), R1 I/O (io), R2 I/O (io), R5 I/O (io), R6 I/O (io), R7 I/O (io), R9 I/O (io), R11 I/O (io), R12 I/O (io), R17 I/O (io), T1 I/O (io), T3 I/O (io), T5 I/O (io), T7 I/O (io), T8 I/O CLK (io), T9 I/O CLK (io), T10 I/O (io), T13 I/O (io), T14 I/O (io), T15 I/O (io), U2 I/O (io), U3 I/O (io), U7 I/O (io), U8 I/O (io), U10 I/O (io), U13 I/O (io), U15 I/O (io), U16 I/O (io)
part B pins: A1 Ext VSS (power), A9 Ext VSS (power), A17 Ext VSS (power), B6 Ext VDD (power), B12 Ext VDD (power), C4 I/O (A16) (io), C5 I/O (A17) (io), D3 I/O (A15) (io), D5 3V Ext VDD (power), D8 Int VDD (power), D10 Int VDD (power), D13 3V Ext VDD (power), D17 I/O (TCK) (io), E2 I/O (A12) (io), E3 I/O (A13) (io), E4 3V Ext VDD (power), E7 Ext VSS (power), E8 Int VSS (power), E9 Ext VSS (power), E10 Int VSS (power), E11 Ext VSS (power), E14 3V Ext VDD (power), F1 I/O (A10) (io), F2 Ext VDD (power), F3 I/O (A11) (io), F4 Ext VSS (power), F14 Ext VSS (power), F16 Ext VDD (power), G4 I/O (A14) (io), H4 Ext VDD (power), H5 Int VSS (power), H13 Ext VSS (power), H14 Ext VDD (power), J1 Ext VSS (power), J3 I/O (A9) (io), J5 Ext VSS (power), J13 Int VSS (power), J17 Ext VSS (power), K4 Int VDD (power), K5 Int VSS (power), K13 Ext VSS (power), K14 Int VDD (power), K17 I/O (TRSTB) (io), L4 I/O (A5) (io), L15 I/O (TDO) (io), L16 I/O (TDI) (io), L17 I/O (TMS) (io), M2 Ext VDD (power), M3 I/O (A6) (io), M4 Ext VSS (power), M14 Ext VSS (power), M16 Ext VDD (power), N1 I/O (A8) (io), N3 F(4) (io), N4 3V Ext VDD (power), N7 Ext VSS (power), N8 Int VDD (power), N9 Int VSS (power), N10 Ext VDD (power), N11 Ext VSS (power), N14 3V Ext VDD (power), P1 I/O (A7) (io), P2 F(3) (io), P3 F(2) (io), P4 F(0) (io), P5 3V Ext VDD (power), P9 Ext VSS (power), P12 3V Ext VDD (power), P13 5V Int VDD (power), P14 VPP (power), P15 I/O (D0) (io), P16 CLK (io), R3 ~{RESET} (in), R4 I/O (A4) (io), R8 I/O (D7) (io), R10 I/O (D6) (io), R13 I/O (D1) (io), R14 MODE(0) (in), R15 MODE(1) (in), R16 I/O (DCLK) (io), T2 F(1) (io), T4 I/O (A3) (io), T6 Ext VDD (power), T11 I/O (D4) (io), T12 Ext VDD (power), T16 MODE(2) (in), T17 MODE(3) (in), U1 Ext VSS (power), U4 I/O (A2) (io), U5 I/O (A1) (io), U6 I/O (A0) (io), U9 Ext VSS (power), U11 I/O (D5) (io), U12 I/O (D3) (io), U14 I/O (D2) (io), U17 Ext VSS (power)

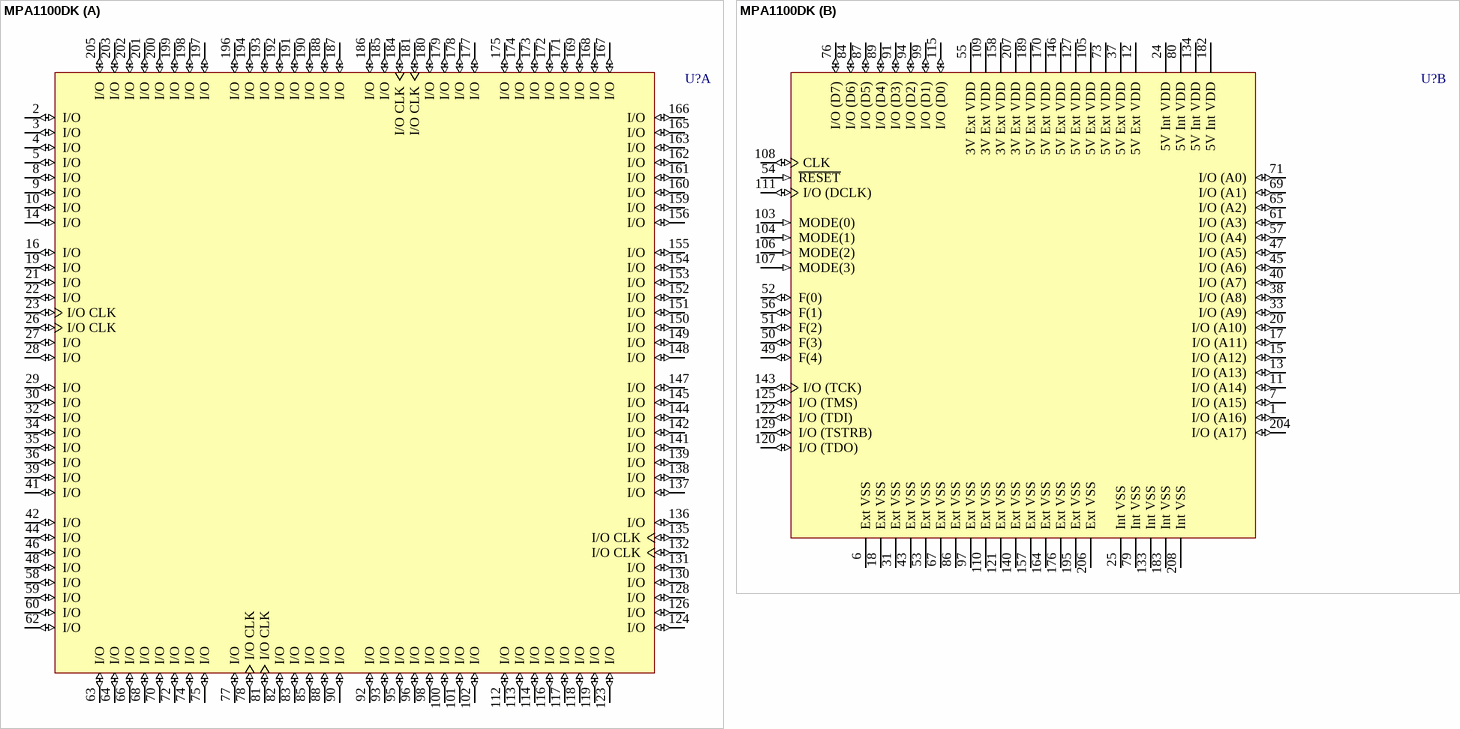
[diagram p3: symbol MPA1100DK]

## MPA1100DK
designator U?
High Density Programmable Array (MPA); Published: 28-Feb-2003; LatestRevisionDate: 13-Apr-2006; LatestRevisionNote: IPC-7351 Footprint Added.; DatasheetVersion: DL201/D Rev. 1; PackageVersion: 1996; PackageReference: 872A-01; Publisher: Altium Limited; PackageDescription: 208-Pin Shrink Quad Flat Pack 0.5 mm Pitch; ComponentLink1Description: Manufacturer Link; ComponentLink1URL: http://www.motorola.com/
footprint 872A-01_N (Shrink QFP, 208-Leads, Body 28x28mm, Pitch 0.5mm, IPC Medium Density)
footprint 872A-01_L (Shrink QFP, 208-Leads, Body 28x28mm, Pitch 0.5mm, IPC High Density)
footprint 872A-01_M (Shrink QFP, 208-Leads, Body 28x28mm, Pitch 0.5mm, IPC Low Density)
3D model MPA1100DK-872A-01 (208-Pin Shrink Quad Flat Pack 0.5 mm Pitch)
part A pins: 2 I/O (io), 3 I/O (io), 4 I/O (io), 5 I/O (io), 8 I/O (io), 9 I/O (io), 10 I/O (io), 14 I/O (io), 16 I/O (io), 19 I/O (io), 21 I/O (io), 22 I/O (io), 23 I/O CLK (io), 26 I/O CLK (io), 27 I/O (io), 28 I/O (io), 29 I/O (io), 30 I/O (io), 32 I/O (io), 34 I/O (io), 35 I/O (io), 36 I/O (io), 39 I/O (io), 41 I/O (io), 42 I/O (io), 44 I/O (io), 46 I/O (io), 48 I/O (io), 58 I/O (io), 59 I/O (io), 60 I/O (io), 62 I/O (io), 63 I/O (io), 64 I/O (io), 66 I/O (io), 68 I/O (io), 70 I/O (io), 72 I/O (io), 74 I/O (io), 75 I/O (io), 77 I/O (io), 78 I/O CLK (io), 81 I/O CLK (io), 82 I/O (io), 83 I/O (io), 85 I/O (io), 88 I/O (io), 90 I/O (io), 92 I/O (io), 93 I/O (io), 95 I/O (io), 96 I/O (io), 98 I/O (io), 100 I/O (io), 101 I/O (io), 102 I/O (io), 112 I/O (io), 113 I/O (io), 114 I/O (io), 116 I/O (io), 117 I/O (io), 118 I/O (io), 119 I/O (io), 123 I/O (io), 124 I/O (io), 126 I/O (io), 128 I/O (io), 130 I/O (io), 131 I/O (io), 132 I/O CLK (io), 135 I/O CLK (io), 136 I/O (io), 137 I/O (io), 138 I/O (io), 139 I/O (io), 141 I/O (io), 142 I/O (io), 144 I/O (io), 145 I/O (io), 147 I/O (io), 148 I/O (io), 149 I/O (io), 150 I/O (io), 151 I/O (io), 152 I/O (io), 153 I/O (io), 154 I/O (io), 155 I/O (io), 156 I/O (io), 159 I/O (io), 160 I/O (io), 161 I/O (io), 162 I/O (io), 163 I/O (io), 165 I/O (io), 166 I/O (io), 167 I/O (io), 168 I/O (io), 169 I/O (io), 171 I/O (io), 172 I/O (io), 173 I/O (io), 174 I/O (io), 175 I/O (io), 177 I/O (io), 178 I/O (io), 179 I/O (io), 180 I/O (io), 181 I/O CLK (io), 184 I/O CLK (io), 185 I/O (io), 186 I/O (io), 187 I/O (io), 188 I/O (io), 190 I/O (io), 191 I/O (io), 192 I/O (io), 193 I/O (io), 194 I/O (io), 196 I/O (io), 197 I/O (io), 198 I/O (io), 199 I/O (io), 200 I/O (io), 201 I/O (io), 202 I/O (io), 203 I/O (io), 205 I/O (io)
part B pins: 1 I/O (A16) (io), 6 Ext VSS (power), 7 I/O (A15) (io), 11 I/O (A14) (io), 12 5V Ext VDD (power), 13 I/O (A13) (io), 15 I/O (A12) (io), 17 I/O (A11) (io), 18 Ext VSS (power), 20 I/O (A10) (io), 24 5V Int VDD (power), 25 Int VSS (power), 31 Ext VSS (power), 33 I/O (A9) (io), 37 5V Ext VDD (power), 38 I/O (A8) (io), 40 I/O (A7) (io), 43 Ext VSS (power), 45 I/O (A6) (io), 47 I/O (A5) (io), 49 F(4) (io), 50 F(3) (io), 51 F(2) (io), 52 F(0) (io), 53 Ext VSS (power), 54 ~{RESET} (in), 55 3V Ext VDD (power), 56 F(1) (io), 57 I/O (A4) (io), 61 I/O (A3) (io), 65 I/O (A2) (io), 67 Ext VSS (power), 69 I/O (A1) (io), 71 I/O (A0) (io), 73 5V Ext VDD (power), 76 I/O (D7) (io), 79 Int VSS (power), 80 5V Int VDD (power), 84 I/O (D6) (io), 86 Ext VSS (power), 87 I/O (D5) (io), 89 I/O (D4) (io), 91 I/O (D3) (io), 94 I/O (D2) (io), 97 Ext VSS (power), 99 I/O (D1) (io), 103 MODE(0) (in), 104 MODE(1) (in), 105 5V Ext VDD (power), 106 MODE(2) (in), 107 MODE(3) (in), 108 CLK (io), 109 3V Ext VDD (power), 110 Ext VSS (power), 111 I/O (DCLK) (io), 115 I/O (D0) (io), 120 I/O (TDO) (io), 121 Ext VSS (power), 122 I/O (TDI) (io), 125 I/O (TMS) (io), 127 5V Ext VDD (power), 129 I/O (TSTRB) (io), 133 Int VSS (power), 134 5V Int VDD (power), 140 Ext VSS (power), 143 I/O (TCK) (io), 146 5V Ext VDD (power), 157 Ext VSS (power), 158 3V Ext VDD (power), 164 Ext VSS (power), 170 5V Ext VDD (power), 176 Ext VSS (power), 182 5V Int VDD (power), 183 Int VSS (power), 189 5V Ext VDD (power), 195 Ext VSS (power), 204 I/O (A17) (io), 206 Ext VSS (power), 207 3V Ext VDD (power), 208 Int VSS (power)

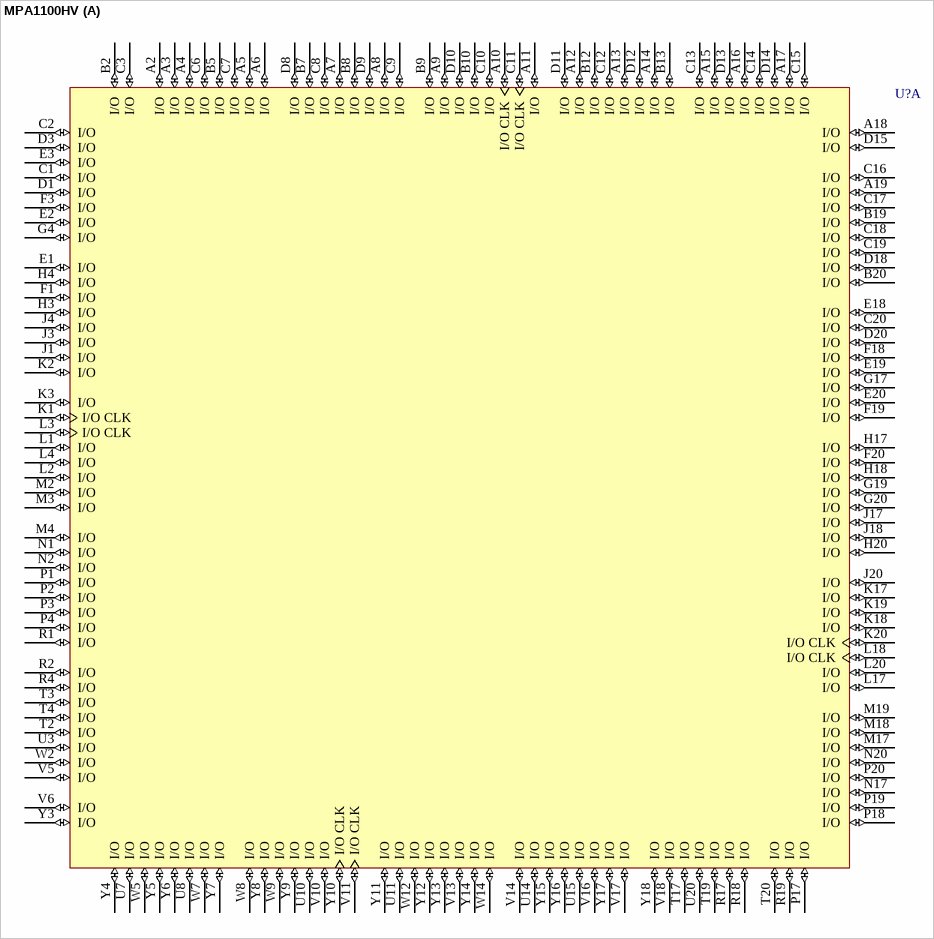
[diagram p4: symbol MPA1100HV]

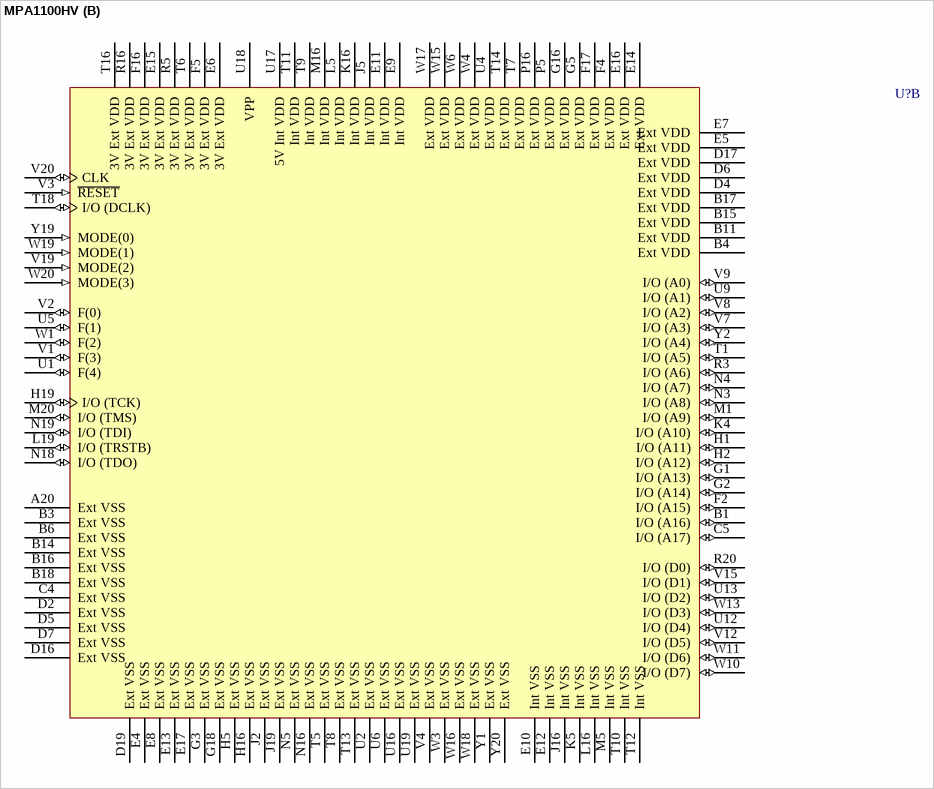
[diagram p5: symbol MPA1100HV]

## MPA1100HV
designator U?
High Density Programmable Array (MPA); Published: 28-Feb-2003; LatestRevisionDate: 04-Mar-2005; LatestRevisionNote: Stylized 3D Model Added.; DatasheetVersion: DL201/D Rev. 1; PackageVersion: 1996; PackageReference: 861A-01; Publisher: Altium Limited; PackageDescription: 299-Pin Pin Grid Array 2.54 mm Pitch; ComponentLink1Description: Manufacturer Link; ComponentLink1URL: http://www.motorola.com/
footprint 861A-01 (PGA, 299-Leads, Body 52.3x52.3mm, Pitch 2.54mm)
3D model MPA1100HV-861A-01 (299-Pin Pin Grid Array 2.54 mm Pitch)
part A pins: A2 I/O (io), A3 I/O (io), A4 I/O (io), A5 I/O (io), A6 I/O (io), A7 I/O (io), A8 I/O (io), A9 I/O (io), A10 I/O CLK (io), A11 I/O (io), A12 I/O (io), A13 I/O (io), A14 I/O (io), A15 I/O (io), A16 I/O (io), A17 I/O (io), A18 I/O (io), A19 I/O (io), B2 I/O (io), B5 I/O (io), B7 I/O (io), B8 I/O (io), B9 I/O (io), B10 I/O (io), B12 I/O (io), B13 I/O (io), B19 I/O (io), B20 I/O (io), C1 I/O (io), C2 I/O (io), C3 I/O (io), C6 I/O (io), C7 I/O (io), C8 I/O (io), C9 I/O (io), C10 I/O (io), C11 I/O CLK (io), C12 I/O (io), C13 I/O (io), C14 I/O (io), C15 I/O (io), C16 I/O (io), C17 I/O (io), C18 I/O (io), C19 I/O (io), C20 I/O (io), D1 I/O (io), D3 I/O (io), D8 I/O (io), D9 I/O (io), D10 I/O (io), D11 I/O (io), D12 I/O (io), D13 I/O (io), D14 I/O (io), D15 I/O (io), D18 I/O (io), D20 I/O (io), E1 I/O (io), E2 I/O (io), E3 I/O (io), E18 I/O (io), E19 I/O (io), E20 I/O (io), F1 I/O (io), F3 I/O (io), F18 I/O (io), F19 I/O (io), F20 I/O (io), G4 I/O (io), G17 I/O (io), G19 I/O (io), G20 I/O (io), H3 I/O (io), H4 I/O (io), H17 I/O (io), H18 I/O (io), H20 I/O (io), J1 I/O (io), J3 I/O (io), J4 I/O (io), J17 I/O (io), J18 I/O (io), J20 I/O (io), K1 I/O CLK (io), K2 I/O (io), K3 I/O (io), K17 I/O (io), K18 I/O (io), K19 I/O (io), K20 I/O CLK (io), L1 I/O (io), L2 I/O (io), L3 I/O CLK (io), L4 I/O (io), L17 I/O (io), L18 I/O CLK (io), L20 I/O (io), M2 I/O (io), M3 I/O (io), M4 I/O (io), M17 I/O (io), M18 I/O (io), M19 I/O (io), N1 I/O (io), N2 I/O (io), N17 I/O (io), N20 I/O (io), P1 I/O (io), P2 I/O (io), P3 I/O (io), P4 I/O (io), P17 I/O (io), P18 I/O (io), P19 I/O (io), P20 I/O (io), R1 I/O (io), R2 I/O (io), R4 I/O (io), R17 I/O (io), R18 I/O (io), R19 I/O (io), T2 I/O (io), T3 I/O (io), T4 I/O (io), T17 I/O (io), T19 I/O (io), T20 I/O (io), U3 I/O (io), U7 I/O (io), U8 I/O (io), U10 I/O (io), U11 I/O (io), U14 I/O (io), U15 I/O (io), U20 I/O (io), V5 I/O (io), V6 I/O (io), V10 I/O (io), V11 I/O CLK (io), V13 I/O (io), V14 I/O (io), V16 I/O (io), V17 I/O (io), V18 I/O (io), W2 I/O (io), W5 I/O (io), W7 I/O (io), W8 I/O (io), W9 I/O (io), W12 I/O (io), W14 I/O (io), Y3 I/O (io), Y4 I/O (io), Y5 I/O (io), Y6 I/O (io), Y7 I/O (io), Y8 I/O (io), Y9 I/O (io), Y10 I/O CLK (io), Y11 I/O (io), Y12 I/O (io), Y13 I/O (io), Y14 I/O (io), Y15 I/O (io), Y16 I/O (io), Y17 I/O (io), Y18 I/O (io)
part B pins: A20 Ext VSS (power), B1 I/O (A16) (io), B3 Ext VSS (power), B4 Ext VDD (power), B6 Ext VSS (power), B11 Ext VDD (power), B14 Ext VSS (power), B15 Ext VDD (power), B16 Ext VSS (power), B17 Ext VDD (power), B18 Ext VSS (power), C4 Ext VSS (power), C5 I/O (A17) (io), D2 Ext VSS (power), D4 Ext VDD (power), D5 Ext VSS (power), D6 Ext VDD (power), D7 Ext VSS (power), D16 Ext VSS (power), D17 Ext VDD (power), D19 Ext VSS (power), E4 Ext VSS (power), E5 Ext VDD (power), E6 3V Ext VDD (power), E7 Ext VDD (power), E8 Ext VSS (power), E9 Int VDD (power), E10 Int VSS (power), E11 Int VDD (power), E12 Int VSS (power), E13 Ext VSS (power), E14 Ext VDD (power), E15 3V Ext VDD (power), E16 Ext VDD (power), E17 Ext VSS (power), F2 I/O (A15) (io), F4 Ext VDD (power), F5 3V Ext VDD (power), F16 3V Ext VDD (power), F17 Ext VDD (power), G1 I/O (A13) (io), G2 I/O (A14) (io), G3 Ext VSS (power), G5 Ext VDD (power), G16 Ext VDD (power), G18 Ext VSS (power), H1 I/O (A11) (io), H2 I/O (A12) (io), H5 Ext VSS (power), H16 Ext VSS (power), H19 I/O (TCK) (io), J2 Ext VSS (power), J5 Int VDD (power), J16 Int VSS (power), J19 Ext VSS (power), K4 I/O (A10) (io), K5 Int VSS (power), K16 Int VDD (power), L5 Int VDD (power), L16 Int VSS (power), L19 I/O (TRSTB) (io), M1 I/O (A9) (io), M5 Int VSS (power), M16 Int VDD (power), M20 I/O (TMS) (io), N3 I/O (A8) (io), N4 I/O (A7) (io), N5 Ext VSS (power), N16 Ext VSS (power), N18 I/O (TDO) (io), N19 I/O (TDI) (io), P5 Ext VDD (power), P16 Ext VDD (power), R3 I/O (A6) (io), R5 3V Ext VDD (power), R16 3V Ext VDD (power), R20 I/O (D0) (io), T1 I/O (A5) (io), T5 Ext VSS (power), T6 3V Ext VDD (power), T7 Ext VDD (power), T8 Ext VSS (power), T9 Int VDD (power), T10 Int VSS (power), T11 Int VDD (power), T12 Int VSS (power), T13 Ext VSS (power), T14 Ext VDD (power), T16 3V Ext VDD (power), T18 I/O (DCLK) (io), U1 F(4) (io), U2 Ext VSS (power), U4 Ext VDD (power), U5 F(1) (io), U6 Ext VSS (power), U9 I/O (A1) (io), U12 I/O (D4) (io), U13 I/O (D2) (io), U16 Ext VSS (power), U17 5V Int VDD (power), U18 VPP (power), U19 Ext VSS (power), V1 F(3) (io), V2 F(0) (io), V3 ~{RESET} (in), V4 Ext VSS (power), V7 I/O (A3) (io), V8 I/O (A2) (io), V9 I/O (A0) (io), V12 I/O (D5) (io), V15 I/O (D1) (io), V19 MODE(2) (in), V20 CLK (io), W1 F(2) (io), W3 Ext VSS (power), W4 Ext VDD (power), W6 Ext VDD (power), W10 I/O (D7) (io), W11 I/O (D6) (io), W13 I/O (D3) (io), W15 Ext VDD (power), W16 Ext VSS (power), W17 Ext VDD (power), W18 Ext VSS (power), W19 MODE(1) (in), W20 MODE(3) (in), Y1 Ext VSS (power), Y2 I/O (A4) (io), Y19 MODE(0) (in), Y20 Ext VSS (power)